# Altium schematic symbol library Schlib1.SchLib: 7 symbols
Pins are listed as number, name and electrical type; pins without a type are passive.

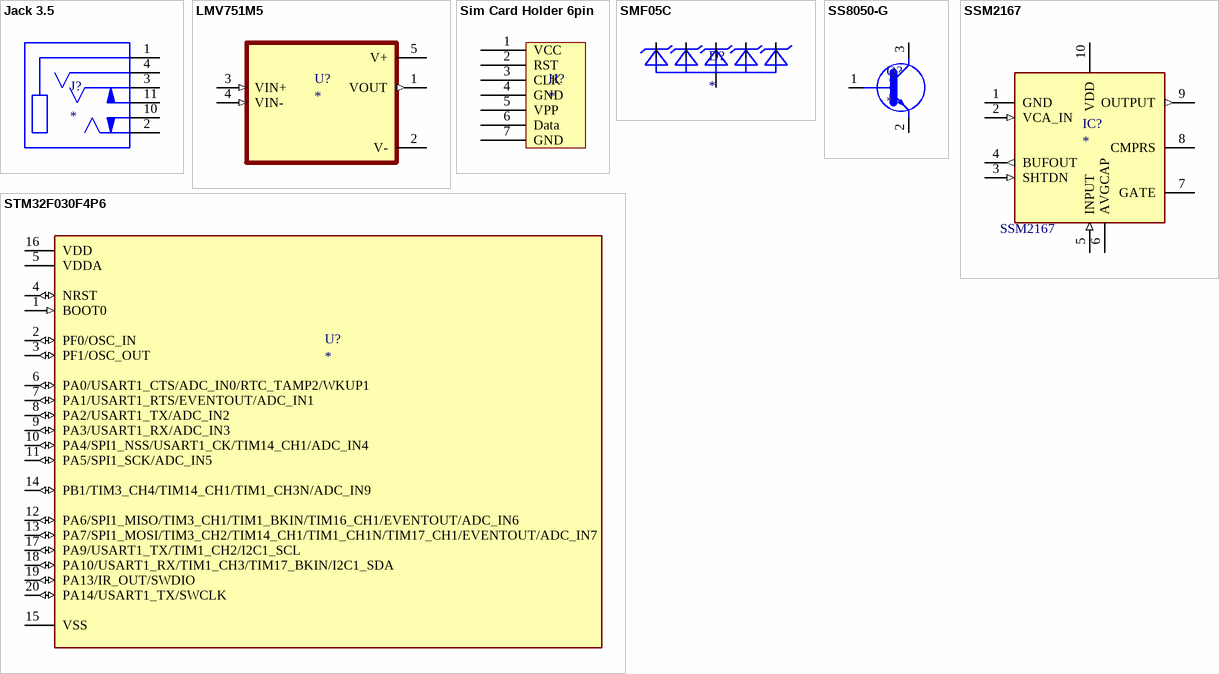
[diagram p0: symbols Jack 3.5 to STM32F030F4P6]

## Jack 3.5
designator J?
footprint SJ2-35954D-SMT-TR
pins: 1 SLEEVE, 2 TIP, 3 RING1, 4 RING2, 10 TIP_SWITCH, 11 RING1_SWITCH

## LMV751M5
designator U?
Low Noise, Low Vos, Single Op Amp 5-SOT-23 -40 to 85
footprint SOT95P280X145-5N
pins: 1 VOUT (out), 2 V- (power), 3 VIN+ (in), 4 VIN- (in), 5 V+ (power)

## Sim Card Holder 6pin
designator H?
nano sin
footprint Sim card
pins: 1 VCC, 2 RST, 3 CLK, 4 GND, 5 VPP, 6 Data, 7 GND

## SMF05C
designator D?
12.5V Clamp 8A _8/20Âµs_ Ipp Tvs Diode Surface Mount SC-88/SC70-6/SOT-363
footprint SMF05C
pins: 1 C1, 2 A, 3 C2, 4 C3, 5 C4, 6 C5

## SS8050-G
designator Q?
Bipolar _BJT_ Transistor NPN 25V 1.5A 100MHz 300mW Surface Mount SOT-23
footprint SS8050-G
pins: 1 B (io), 2 E (io), 3 C (io)

## SSM2167
designator IC?
Amplifier IC 1-Channel (Mono) Class AB 10-MSOP
footprint MSOP10
pins: 1 GND (power), 2 VCA_IN (in), 3 SHTDN (in), 4 BUFOUT (out), 5 INPUT (in), 6 AVGCAP, 7 GATE, 8 CMPRS, 9 OUTPUT (out), 10 VDD (power)

## STM32F030F4P6
designator U?
ARMÂ® CortexÂ®-M0 STM32F0 Microcontroller IC 32-Bit 48MHz 16KB _16K x 8_ FLASH
footprint SOP65P640X120-20N
pins: 1 BOOT0 (in), 2 PF0/OSC_IN (io), 3 PF1/OSC_OUT (io), 4 NRST (io), 5 VDDA (power), 6 PA0/USART1_CTS/ADC_IN0/RTC_TAMP2/WKUP1 (io), 7 PA1/USART1_RTS/EVENTOUT/ADC_IN1 (io), 8 PA2/USART1_TX/ADC_IN2 (io), 9 PA3/USART1_RX/ADC_IN3 (io), 10 PA4/SPI1_NSS/USART1_CK/TIM14_CH1/ADC_IN4 (io), 11 PA5/SPI1_SCK/ADC_IN5 (io), 12 PA6/SPI1_MISO/TIM3_CH1/TIM1_BKIN/TIM16_CH1/EVENTOUT/ADC_IN6 (io), 13 PA7/SPI1_MOSI/TIM3_CH2/TIM14_CH1/TIM1_CH1N/TIM17_CH1/EVENTOUT/ADC_IN7 (io), 14 PB1/TIM3_CH4/TIM14_CH1/TIM1_CH3N/ADC_IN9 (io), 15 VSS (power), 16 VDD (power), 17 PA9/USART1_TX/TIM1_CH2/I2C1_SCL (io), 18 PA10/USART1_RX/TIM1_CH3/TIM17_BKIN/I2C1_SDA (io), 19 PA13/IR_OUT/SWDIO (io), 20 PA14/USART1_TX/SWCLK (io)